# EAGLE library part DWARF14 (library metratec_oem)
SMT Mifare RFID reader module, UFL external Antenna Connector, UART Interface and 8 GPIOs 5V/120mA supply
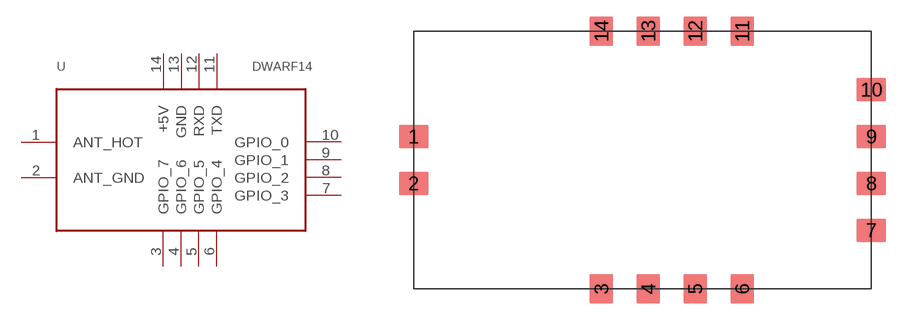
[diagram p2: symbol with the pads of DWARF14; footprint DWARF14]

Designator prefix -

## DWARF14  [DWARF14]
1  ANT_HOT
2  ANT_GND
3  GPIO_7
4  GPIO_6
5  GPIO_5
6  GPIO_4
7  GPIO_3
8  GPIO_2
9  GPIO_1
10  GPIO_0
11  TXD  out
12  RXD  in
13  GND
14  +5V

## Footprint DWARF14 (pad centres in mm)
smd 2.5 x 2: 1 0,2; 2 0,-2; 7 39,-6; 8 39,-2; 9 39,2; 10 39,6
smd 2 x 2.5: 3 16,-11; 4 20,-11; 5 24,-11; 6 28,-11; 11 28,11; 12 24,11; 13 20,11; 14 16,11